# EAGLE library part PIC18F25K50-I/SO (library PIC18F25K50-I_SO)
None
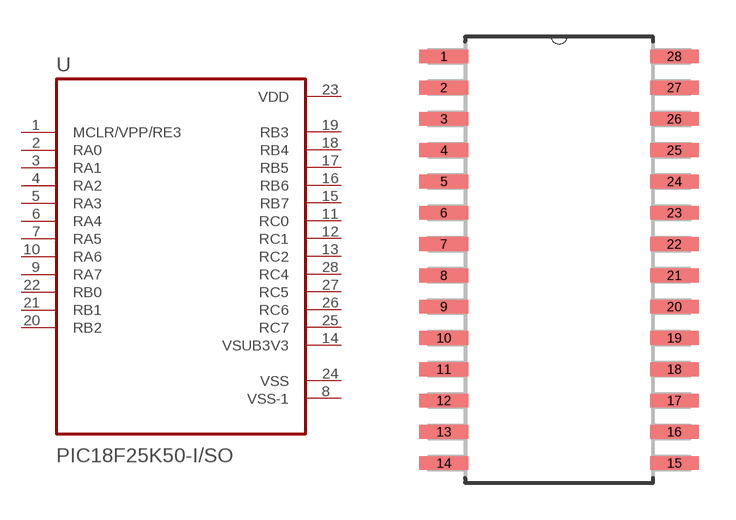
[diagram p0: symbol with the pads of SOIC127P1030X265-28N; footprint SOIC127P1030X265-28N]

Designator prefix U

## PIC18F25K50-I/SO (Availability: Good; Description: PIC18F Series 2 KB RAM 32 kB Flash 8-Bit Surface Mount Microcontroller-SOIC-28; MF: Microchip; MP: PIC18F25K50-I/SO; Package: SOIC-28 Microchip; Price: 2.44 USD)  [SOIC127P1030X265-28N]
1  MCLR/VPP/RE3
2  RA0
3  RA1
4  RA2
5  RA3
6  RA4
7  RA5
8  VSS-1  pwr
9  RA7
10  RA6
11  RC0
12  RC1
13  RC2
14  VSUB3V3
15  RB7
16  RB6
17  RB5
18  RB4
19  RB3
20  RB2
21  RB1
22  RB0
23  VDD  pwr
24  VSS  pwr
25  RC7
26  RC6
27  RC5
28  RC4

## Footprint SOIC127P1030X265-28N (pad centres in mm)
smd 1.981 x 0.559: 1 -4.674,8.255; 2 -4.674,6.985; 3 -4.674,5.715; 4 -4.674,4.445; 5 -4.674,3.175; 6 -4.674,1.905; 7 -4.674,0.635; 8 -4.674,-0.635; 9 -4.674,-1.905; 10 -4.674,-3.175; 11 -4.674,-4.445; 12 -4.674,-5.715; 13 -4.674,-6.985; 14 -4.674,-8.255; 15 4.674,-8.255; 16 4.674,-6.985; 17 4.674,-5.715; 18 4.674,-4.445; 19 4.674,-3.175; 20 4.674,-1.905; 21 4.674,-0.635; 22 4.674,0.635; 23 4.674,1.905; 24 4.674,3.175; 25 4.674,4.445; 26 4.674,5.715; 27 4.674,6.985; 28 4.674,8.255